# Altium footprint library 2.01-SO封装.PcbLib: 42 footprints (part 2 of 3)
Each footprint in its own frame and in the unit in brackets; x right, y up, seen from the top. Pads: shape width x height; smd on the part's side, far side on the other; paste and mask are expansions set on the pad; w line width, h text height; cw(c..) or ccw(c..) is an arc to the next point about the centre after c.
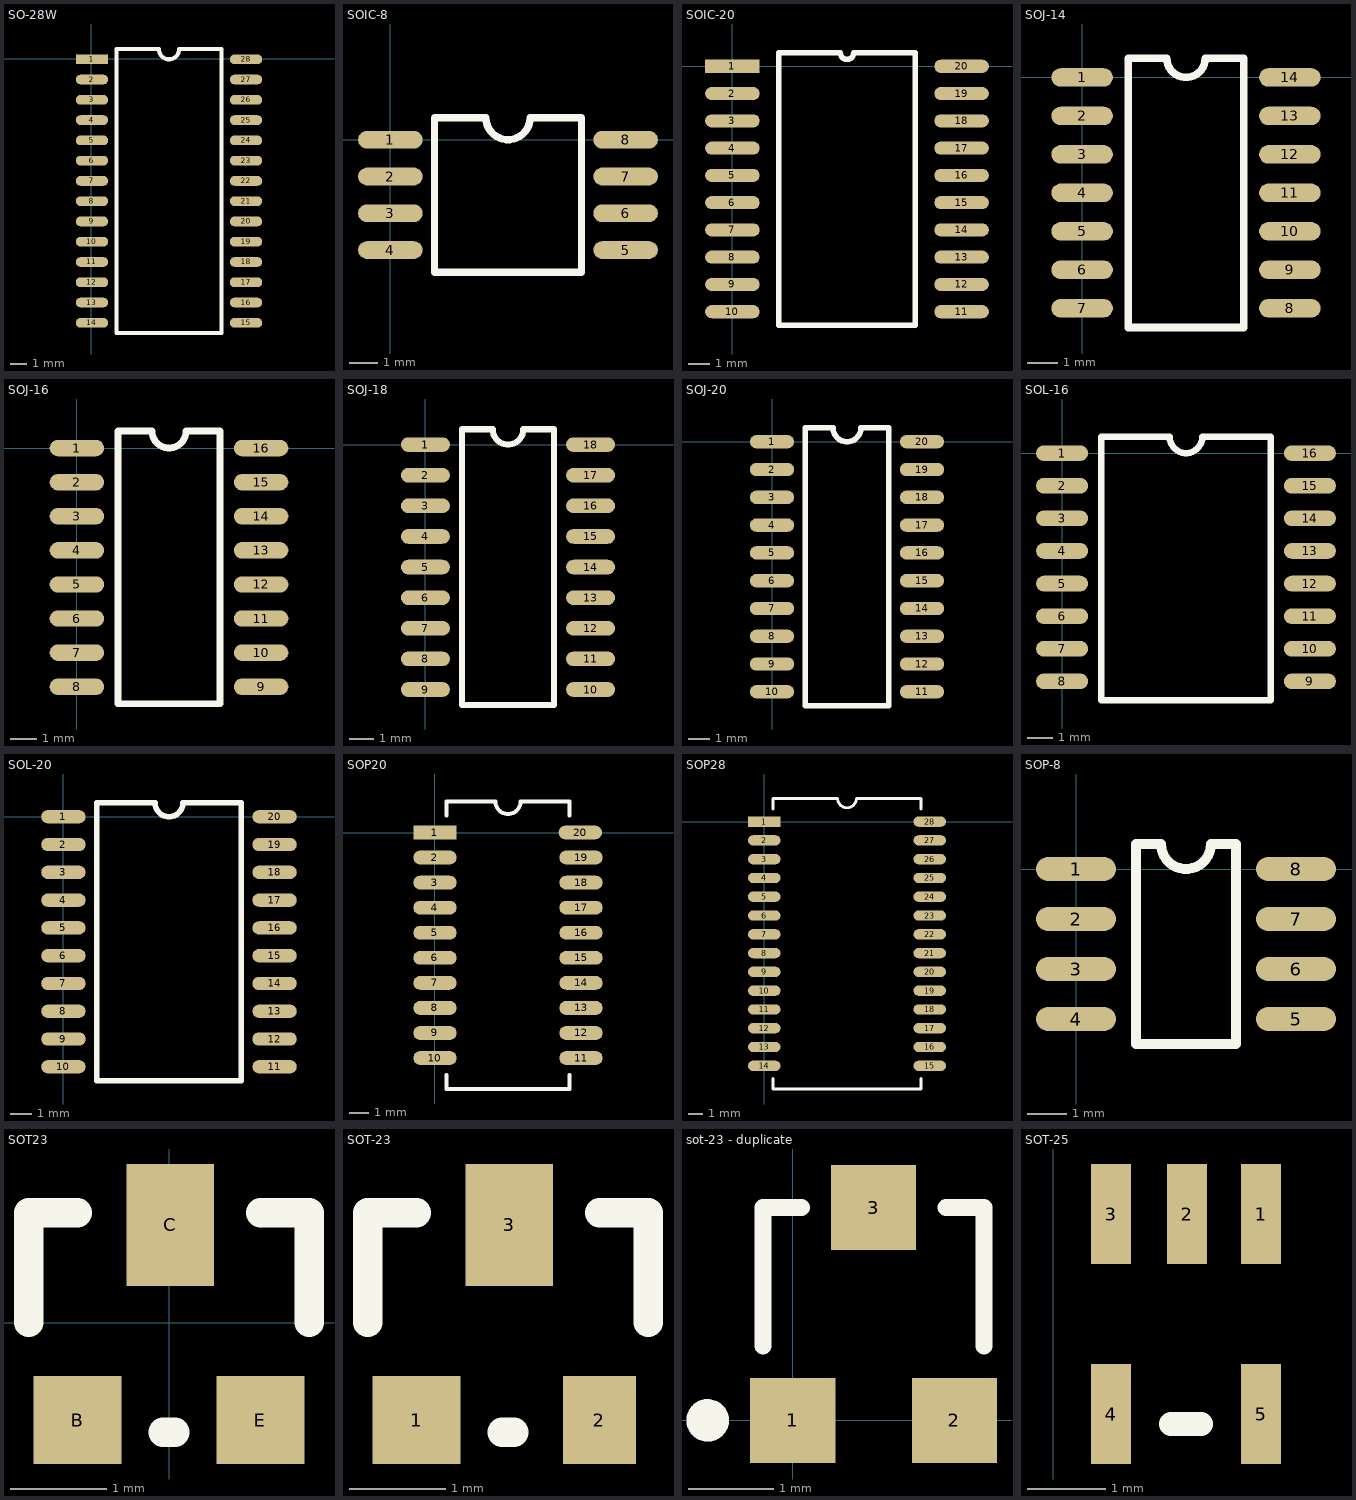
[diagram p1: the footprints below, top view; thin cyan lines are the x and y axes]

## SO-28W [mil] "封装库来自淘宝卖家 ID：黄晶宝石"
pads (28):
  rect 80x24 smd: 1(2,-1)
  oval 80x24 smd: 2(2,-51) 3(2,-101) 4(2,-151) 5(2,-201) 6(2,-251) 7(2,-301) 8(2,-351) 9(2,-401) 10(2,-451) 11(2,-501) 12(2,-551) 13(2,-601) 14(2,-651) 15(382,-651) 16(382,-601) 17(382,-551) 18(382,-501) 19(382,-451) 20(382,-401) 21(382,-351) 22(382,-301) 23(382,-251) 24(382,-201) 25(382,-151) 26(382,-101) 27(382,-51) 28(382,-1)
Top Overlay:
  lines w10: 62,-676 322,-676 322,24 217,24 cw(c192,24) 167,24 62,24 62,-676

## SOIC-8 [mil]
pads (8):
  oval 88x24 smd: 1(0,0) 2(0,-50) 3(0,-100) 4(0,-150) 5(320,-150) 6(320,-100) 7(320,-50) 8(320,0)
Top Overlay:
  lines w10: 60,-180 260,-180 260,30 190,30 cw(c160,30) 130,30 60,30 60,-180
3D body "SW3dPS-SOIC8_(ATTINY12).STEP": height 90.55, standoff -0.78, extent -5.2,-180.9 325.21,30.91

## SOIC-20 [mil]
height 39.37
pads (20):
  rect 100x24 smd: 1(0,0)
  oval 100x24 smd: 2(0,-50) 3(0,-100) 4(0,-150) 5(0,-200) 6(0,-250) 7(0,-300) 8(0,-350) 9(0,-400) 10(0,-450) 11(420,-450) 12(420,-400) 13(420,-350) 14(420,-300) 15(420,-250) 16(420,-200) 17(420,-150) 18(420,-100) 19(420,-50) 20(420,0)
Top Overlay:
  lines w10: 85,-475 85,25 197.5,25 ccw(c210,25) 222.5,25 335,25 335,-475 85,-475
3D body "User Library-SOIC-20-300.STEP": height 101.38, standoff -0.98, extent 1.34,-480.9 418.66,30.91

## SOJ-14 [mil]
pads (14):
  oval 80x24 smd: 1(0,0) 2(0,-50) 3(0,-100) 4(0,-150) 5(0,-200) 6(0,-250) 7(0,-300) 8(270,-300) 9(270,-250) 10(270,-200) 11(270,-150) 12(270,-100) 13(270,-50) 14(270,0)
Top Overlay:
  lines w10: 60,-325 210,-325 210,25 160,25 cw(c135,25) 110,25 60,25 60,-325

## SOJ-16 [mil]
pads (16):
  oval 80x24 smd: 1(0,0) 2(0,-50) 3(0,-100) 4(0,-150) 5(0,-200) 6(0,-250) 7(0,-300) 8(0,-350) 9(270,-350) 10(270,-300) 11(270,-250) 12(270,-200) 13(270,-150) 14(270,-100) 15(270,-50) 16(270,0)
Top Overlay:
  lines w10: 60,-375 210,-375 210,25 160,25 cw(c135,25) 110,25 60,25 60,-375

## SOJ-18 [mil]
pads (18):
  oval 80x24 smd: 1(0,0) 2(0,-50) 3(0,-100) 4(0,-150) 5(0,-200) 6(0,-250) 7(0,-300) 8(0,-350) 9(0,-400) 10(270,-400) 11(270,-350) 12(270,-300) 13(270,-250) 14(270,-200) 15(270,-150) 16(270,-100) 17(270,-50) 18(270,0)
Top Overlay:
  lines w10: 60,-425 60,25 110,25 ccw(c135,25) 160,25 210,25 210,-425 60,-425

## SOJ-20 [mil]
pads (20):
  oval 80x24 smd: 1(0,0) 2(0,-50) 3(0,-100) 4(0,-150) 5(0,-200) 6(0,-250) 7(0,-300) 8(0,-350) 9(0,-400) 10(0,-450) 11(270,-450) 12(270,-400) 13(270,-350) 14(270,-300) 15(270,-250) 16(270,-200) 17(270,-150) 18(270,-100) 19(270,-50) 20(270,0)
Top Overlay:
  lines w10: 60,-475 60,25 110,25 ccw(c135,25) 160,25 210,25 210,-475 60,-475

## SOL-16 [mil]
pads (16):
  oval 80x24 smd: 1(0,0) 2(0,-50) 3(0,-100) 4(0,-150) 5(0,-200) 6(0,-250) 7(0,-300) 8(0,-350) 9(380,-350) 10(380,-300) 11(380,-250) 12(380,-200) 13(380,-150) 14(380,-100) 15(380,-50) 16(380,0)
Top Overlay:
  lines w10: 60,-379 320,-379 320,25 215,25 cw(c190,25) 165,25 60,25 60,-379

## SOL-20 [mil] "封装库来自淘宝卖家 ID：黄晶宝石"
pads (20):
  oval 80x24 smd: 1(0,0) 2(0,-50) 3(0,-100) 4(0,-150) 5(0,-200) 6(0,-250) 7(0,-300) 8(0,-350) 9(0,-400) 10(0,-450) 11(380,-450) 12(380,-400) 13(380,-350) 14(380,-300) 15(380,-250) 16(380,-200) 17(380,-150) 18(380,-100) 19(380,-50) 20(380,0)
Top Overlay:
  lines w10: 60,-475 60,25 165,25 ccw(c190,25) 215,25 320,25 320,-475 60,-475

## SOP20 [mm] "封装库来自淘宝卖家 ID：黄晶宝石"
pads (20):
  rect 2.2x0.7 smd: 1(0,0)
  oval 2.2x0.7 smd: 2(0,-1.27) 3(0,-2.54) 4(0,-3.81) 5(0,-5.08) 6(0,-6.35) 7(0,-7.62) 8(0,-8.89) 9(0,-10.16) 10(0,-11.43) 11(7.4,-11.43) 12(7.4,-10.16) 13(7.4,-8.89) 14(7.4,-7.62) 15(7.4,-6.35) 16(7.4,-5.08) 17(7.4,-3.81) 18(7.4,-2.54) 19(7.4,-1.27) 20(7.366,0)
Top Overlay:
  lines w0.2: 0.59,-12.28 0.59,-13 6.81,-13 6.81,-12.28 ; 0.59,0.85 0.59,1.57 3.065,1.57 ccw(c3.7,1.57) 4.335,1.57 6.81,1.57 6.81,0.85

## SOP28 [mm] "封装库来自淘宝卖家 ID：黄晶宝石"
pads (28):
  rect 2.2x0.7 smd: 1(0,0)
  oval 2.2x0.7 smd: 2(0,-1.27) 3(0,-2.54) 4(0,-3.81) 5(0,-5.08) 6(0,-6.35) 7(0,-7.62) 8(0,-8.89) 9(0,-10.16) 10(0,-11.43) 11(0,-12.7) 12(0,-13.97) 13(0,-15.24) 14(0,-16.51) 15(11.2,-16.51) 16(11.2,-15.24) 17(11.2,-13.97) 18(11.2,-12.7) 19(11.2,-11.43) 20(11.2,-10.16) 21(11.2,-8.89) 22(11.2,-7.62) 23(11.2,-6.35) 24(11.2,-5.08) 25(11.2,-3.81) 26(11.2,-2.54) 27(11.2,-1.27) 28(11.2,0)
Top Overlay:
  lines w0.2: 0.585,-17.36 0.585,-18.08 10.615,-18.08 10.615,-17.36 ; 0.585,0.85 0.585,1.57 4.965,1.57 ccw(c5.6,1.57) 6.235,1.57 10.615,1.57 10.615,0.85

## SOP-8 [mil] "封装库来自淘宝卖家 ID：黄晶宝石"
height 39.37
pads (8):
  oval 80x24 smd: 1(0,0) 2(0,-50) 3(0,-100) 4(0,-150) 5(220,-150) 6(220,-100) 7(220,-50) 8(220,0)
Top Overlay:
  lines w10: 60,-175 60,25 85,25 ccw(c110,25) 135,25 160,25 160,-175 60,-175
3D body "User Library-so-8.step": height 73.87, standoff -1.02, extent -14.77,-173.25 234.78,23.75

## SOT23 [mil]
pads (3):
  rect 36x36 smd: B(-37.5,-40) E(37.5,-40)
  rect 36x50 smd: C(0.5,40)
Top Overlay:
  lines w12: -57.5,0 -57.5,45 -37.5,45 ; -2.5,-45 2.5,-45 ; 37.5,45 57.5,45 57.5,0

## SOT-23 [mil] "封装库来自淘宝卖家 ID：黄晶宝石"
pads (3):
  rect 36x36 smd: 1(47.76,-120.28)
  rect 30x36 smd: 2(122.75,-120.28)
  rect 36x50 smd: 3(85.75,-40.28)
Top Overlay:
  lines w12: 27.75,-80.28 27.75,-35.28 47.76,-35.28 ; 82.75,-125.28 87.75,-125.28 ; 122.75,-35.28 142.75,-35.28 142.75,-80.28

## sot-23 - duplicate [mm] "封装库来自淘宝卖家 ID：黄晶宝石"
height 1
pads (3):
  rect 1x1 smd: 1(0,0) 2(1.9,0) 3(0.95,2.5)
Top Overlay:
  circle w0.25: c-1,0 r0.125
  lines w0.2: -0.35,0.875 -0.35,2.5 0.1,2.5 ; 1.8,2.5 2.25,2.5 2.25,0.875
3D body "SOT-23-3.STEP": height 1.2, standoff 0, extent -0.5,-0.15 2.4,2.65

## SOT-25 [mil] "封装库来自淘宝卖家 ID：黄晶宝石"
pads (5):
  rect 20x50 smd: 1(104,-40) 2(67,-40) 3(29,-40) 4(29,-140) 5(104,-140)
Top Overlay:
  lines w12: 59,-145 74,-145